# EAGLE library part IMX31_R2 (library DUMMY)
correct dimensions 62x42mm
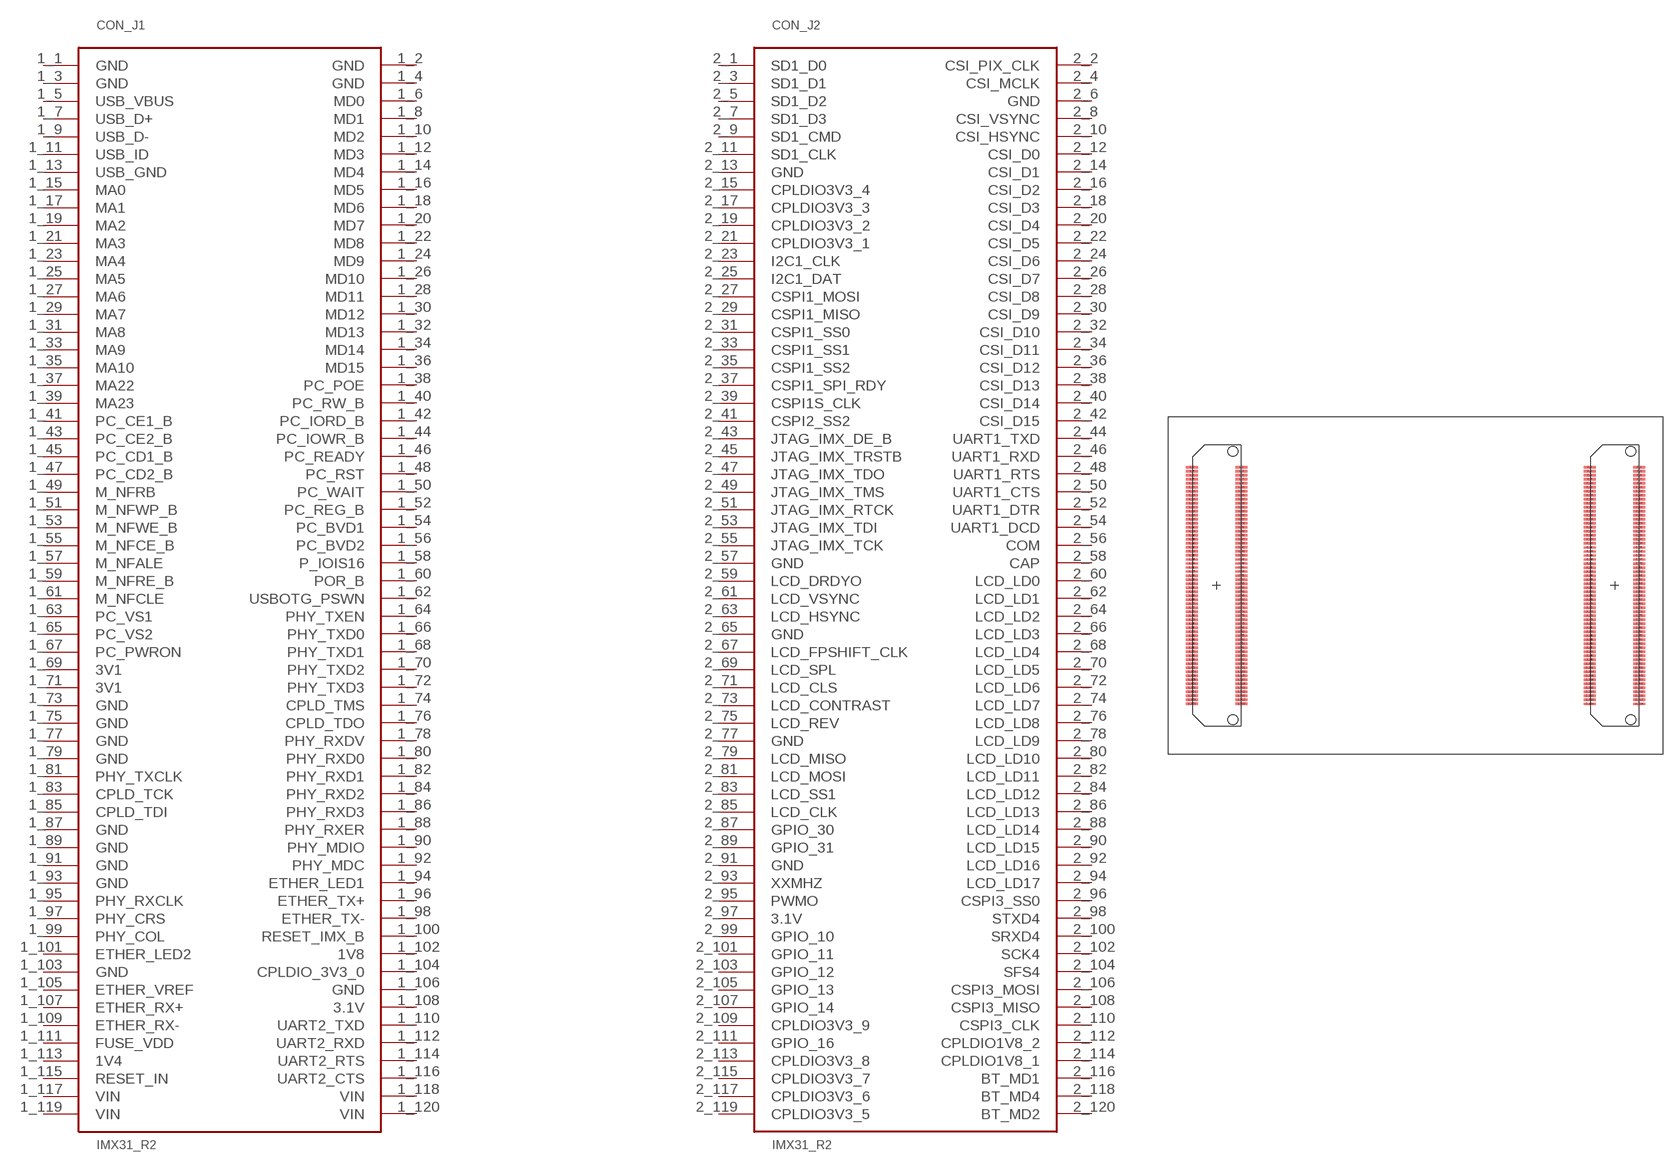
[diagram p2: symbol with the pads of IMX31_R1; footprint IMX31_R1]

Designator prefix CON; gates _J1=CPU_MODULE_J1 _J2=CPU_MODULE_J2

## IMX31_R2  [IMX31_R1]
1_1  _J1:GND
1_2  _J1:GND
1_3  _J1:GND
1_4  _J1:GND
1_5  _J1:USB_VBUS
1_6  _J1:MD0
1_7  _J1:USB_D+
1_8  _J1:MD1
1_9  _J1:USB_D-
1_10  _J1:MD2
1_11  _J1:USB_ID
1_12  _J1:MD3
1_13  _J1:USB_GND
1_14  _J1:MD4
1_15  _J1:MA0
1_16  _J1:MD5
1_17  _J1:MA1
1_18  _J1:MD6
1_19  _J1:MA2
1_20  _J1:MD7
1_21  _J1:MA3
1_22  _J1:MD8
1_23  _J1:MA4
1_24  _J1:MD9
1_25  _J1:MA5
1_26  _J1:MD10
1_27  _J1:MA6
1_28  _J1:MD11
1_29  _J1:MA7
1_30  _J1:MD12
1_31  _J1:MA8
1_32  _J1:MD13
1_33  _J1:MA9
1_34  _J1:MD14
1_35  _J1:MA10
1_36  _J1:MD15
1_37  _J1:MA22
1_38  _J1:PC_POE
1_39  _J1:MA23
1_40  _J1:PC_RW_B
1_41  _J1:PC_CE1_B
1_42  _J1:PC_IORD_B
1_43  _J1:PC_CE2_B
1_44  _J1:PC_IOWR_B
1_45  _J1:PC_CD1_B
1_46  _J1:PC_READY
1_47  _J1:PC_CD2_B
1_48  _J1:PC_RST
1_49  _J1:M_NFRB
1_50  _J1:PC_WAIT
1_51  _J1:M_NFWP_B
1_52  _J1:PC_REG_B
1_53  _J1:M_NFWE_B
1_54  _J1:PC_BVD1
1_55  _J1:M_NFCE_B
1_56  _J1:PC_BVD2
1_57  _J1:M_NFALE
1_58  _J1:P_IOIS16
1_59  _J1:M_NFRE_B
1_60  _J1:POR_B
1_61  _J1:M_NFCLE
1_62  _J1:USBOTG_PSWN
1_63  _J1:PC_VS1
1_64  _J1:PHY_TXEN
1_65  _J1:PC_VS2
1_66  _J1:PHY_TXD0
1_67  _J1:PC_PWRON
1_68  _J1:PHY_TXD1
1_69  _J1:3V1
1_70  _J1:PHY_TXD2
1_71  _J1:3V1
1_72  _J1:PHY_TXD3
1_73  _J1:GND
1_74  _J1:CPLD_TMS
1_75  _J1:GND
1_76  _J1:CPLD_TDO
1_77  _J1:GND
1_78  _J1:PHY_RXDV
1_79  _J1:GND
1_80  _J1:PHY_RXD0
1_81  _J1:PHY_TXCLK
1_82  _J1:PHY_RXD1
1_83  _J1:CPLD_TCK
1_84  _J1:PHY_RXD2
1_85  _J1:CPLD_TDI
1_86  _J1:PHY_RXD3
1_87  _J1:GND
1_88  _J1:PHY_RXER
1_89  _J1:GND
1_90  _J1:PHY_MDIO
1_91  _J1:GND
1_92  _J1:PHY_MDC
1_93  _J1:GND
1_94  _J1:ETHER_LED1
1_95  _J1:PHY_RXCLK
1_96  _J1:ETHER_TX+
1_97  _J1:PHY_CRS
1_98  _J1:ETHER_TX-
1_99  _J1:PHY_COL
1_100  _J1:RESET_IMX_B
1_101  _J1:ETHER_LED2
1_102  _J1:1V8
1_103  _J1:GND
1_104  _J1:CPLDIO_3V3_0
1_105  _J1:ETHER_VREF
1_106  _J1:GND
1_107  _J1:ETHER_RX+
1_108  _J1:3.1V
1_109  _J1:ETHER_RX-
1_110  _J1:UART2_TXD
1_111  _J1:FUSE_VDD
1_112  _J1:UART2_RXD
1_113  _J1:1V4
1_114  _J1:UART2_RTS
1_115  _J1:RESET_IN
1_116  _J1:UART2_CTS
1_117  _J1:VIN
1_118  _J1:VIN
1_119  _J1:VIN
1_120  _J1:VIN
2_1  _J2:SD1_D0
2_2  _J2:CSI_PIX_CLK
2_3  _J2:SD1_D1
2_4  _J2:CSI_MCLK
2_5  _J2:SD1_D2
2_6  _J2:GND
2_7  _J2:SD1_D3
2_8  _J2:CSI_VSYNC
2_9  _J2:SD1_CMD
2_10  _J2:CSI_HSYNC
2_11  _J2:SD1_CLK
2_12  _J2:CSI_D0
2_13  _J2:GND
2_14  _J2:CSI_D1
2_15  _J2:CPLDIO3V3_4
2_16  _J2:CSI_D2
2_17  _J2:CPLDIO3V3_3
2_18  _J2:CSI_D3
2_19  _J2:CPLDIO3V3_2
2_20  _J2:CSI_D4
2_21  _J2:CPLDIO3V3_1
2_22  _J2:CSI_D5
2_23  _J2:I2C1_CLK
2_24  _J2:CSI_D6
2_25  _J2:I2C1_DAT
2_26  _J2:CSI_D7
2_27  _J2:CSPI1_MOSI
2_28  _J2:CSI_D8
2_29  _J2:CSPI1_MISO
2_30  _J2:CSI_D9
2_31  _J2:CSPI1_SS0
2_32  _J2:CSI_D10
2_33  _J2:CSPI1_SS1
2_34  _J2:CSI_D11
2_35  _J2:CSPI1_SS2
2_36  _J2:CSI_D12
2_37  _J2:CSPI1_SPI_RDY
2_38  _J2:CSI_D13
2_39  _J2:CSPI1S_CLK
2_40  _J2:CSI_D14
2_41  _J2:CSPI2_SS2
2_42  _J2:CSI_D15
2_43  _J2:JTAG_IMX_DE_B
2_44  _J2:UART1_TXD
2_45  _J2:JTAG_IMX_TRSTB
2_46  _J2:UART1_RXD
2_47  _J2:JTAG_IMX_TDO
2_48  _J2:UART1_RTS
2_49  _J2:JTAG_IMX_TMS
2_50  _J2:UART1_CTS
2_51  _J2:JTAG_IMX_RTCK
2_52  _J2:UART1_DTR
2_53  _J2:JTAG_IMX_TDI
2_54  _J2:UART1_DCD
2_55  _J2:JTAG_IMX_TCK
2_56  _J2:COM
2_57  _J2:GND
2_58  _J2:CAP
2_59  _J2:LCD_DRDYO
2_60  _J2:LCD_LD0
2_61  _J2:LCD_VSYNC
2_62  _J2:LCD_LD1
2_63  _J2:LCD_HSYNC
2_64  _J2:LCD_LD2
2_65  _J2:GND
2_66  _J2:LCD_LD3
2_67  _J2:LCD_FPSHIFT_CLK
2_68  _J2:LCD_LD4
2_69  _J2:LCD_SPL
2_70  _J2:LCD_LD5
2_71  _J2:LCD_CLS
2_72  _J2:LCD_LD6
2_73  _J2:LCD_CONTRAST
2_74  _J2:LCD_LD7
2_75  _J2:LCD_REV
2_76  _J2:LCD_LD8
2_77  _J2:GND
2_78  _J2:LCD_LD9
2_79  _J2:LCD_MISO
2_80  _J2:LCD_LD10
2_81  _J2:LCD_MOSI
2_82  _J2:LCD_LD11
2_83  _J2:LCD_SS1
2_84  _J2:LCD_LD12
2_85  _J2:LCD_CLK
2_86  _J2:LCD_LD13
2_87  _J2:GPIO_30
2_88  _J2:LCD_LD14
2_89  _J2:GPIO_31
2_90  _J2:LCD_LD15
2_91  _J2:GND
2_92  _J2:LCD_LD16
2_93  _J2:XXMHZ
2_94  _J2:LCD_LD17
2_95  _J2:PWMO
2_96  _J2:CSPI3_SS0
2_97  _J2:3.1V
2_98  _J2:STXD4
2_99  _J2:GPIO_10
2_100  _J2:SRXD4
2_101  _J2:GPIO_11
2_102  _J2:SCK4
2_103  _J2:GPIO_12
2_104  _J2:SFS4
2_105  _J2:GPIO_13
2_106  _J2:CSPI3_MOSI
2_107  _J2:GPIO_14
2_108  _J2:CSPI3_MISO
2_109  _J2:CPLDIO3V3_9
2_110  _J2:CSPI3_CLK
2_111  _J2:GPIO_16
2_112  _J2:CPLDIO1V8_2
2_113  _J2:CPLDIO3V3_8
2_114  _J2:CPLDIO1V8_1
2_115  _J2:CPLDIO3V3_7
2_116  _J2:BT_MD1
2_117  _J2:CPLDIO3V3_6
2_118  _J2:BT_MD4
2_119  _J2:CPLDIO3V3_5
2_120  _J2:BT_MD2

## Footprint IMX31_R1 (pad centres in mm)
smd 1.448 x 0.305: 1_1 -21.714,14.755; 1_2 -27.886,14.755; 1_3 -21.714,14.255; 1_4 -27.886,14.255; 1_5 -21.714,13.755; 1_6 -27.886,13.755; 1_7 -21.714,13.255; 1_8 -27.886,13.255; 1_9 -21.714,12.755; 1_10 -27.886,12.755; 1_11 -21.714,12.255; 1_12 -27.886,12.255; 1_13 -21.714,11.755; 1_14 -27.886,11.755; 1_15 -21.714,11.255; 1_16 -27.886,11.255; 1_17 -21.714,10.755; 1_18 -27.886,10.755; 1_19 -21.714,10.255; 1_20 -27.886,10.255; 1_21 -21.714,9.755; 1_22 -27.886,9.755; 1_23 -21.714,9.255; 1_24 -27.886,9.255; 1_25 -21.714,8.755; 1_26 -27.886,8.755; 1_27 -21.714,8.255; 1_28 -27.886,8.255; 1_29 -21.714,7.755; 1_30 -27.886,7.755; 1_31 -21.714,7.255; 1_32 -27.886,7.255; 1_33 -21.714,6.755; 1_34 -27.886,6.755; 1_35 -21.714,6.255; 1_36 -27.886,6.255; 1_37 -21.714,5.755; 1_38 -27.886,5.755; 1_39 -21.714,5.255; 1_40 -27.886,5.255; 1_41 -21.714,4.755; 1_42 -27.886,4.755; 1_43 -21.714,4.255; 1_44 -27.886,4.255; 1_45 -21.714,3.755; 1_46 -27.886,3.755; 1_47 -21.714,3.255; 1_48 -27.886,3.255; 1_49 -21.714,2.755; 1_50 -27.886,2.755; 1_51 -21.714,2.255; 1_52 -27.886,2.255; 1_53 -21.714,1.755; 1_54 -27.886,1.755; 1_55 -21.714,1.255; 1_56 -27.886,1.255; 1_57 -21.714,0.755; 1_58 -27.886,0.755; 1_59 -21.714,0.255; 1_60 -27.886,0.255; 1_61 -21.714,-0.248; 1_62 -27.886,-0.248; 1_63 -21.714,-0.748; 1_64 -27.886,-0.748; 1_65 -21.714,-1.248; 1_66 -27.886,-1.248; 1_67 -21.714,-1.748; 1_68 -27.886,-1.748; 1_69 -21.714,-2.248; 1_70 -27.886,-2.248; 1_71 -21.714,-2.748; 1_72 -27.886,-2.748; 1_73 -21.714,-3.248; 1_74 -27.886,-3.248; 1_75 -21.714,-3.748; 1_76 -27.886,-3.748; 1_77 -21.714,-4.248; 1_78 -27.886,-4.248; 1_79 -21.714,-4.748; 1_80 -27.886,-4.748; 1_81 -21.714,-5.248; 1_82 -27.886,-5.248; 1_83 -21.714,-5.748; 1_84 -27.886,-5.748; 1_85 -21.714,-6.248; 1_86 -27.886,-6.248; 1_87 -21.714,-6.748; 1_88 -27.886,-6.748; 1_89 -21.714,-7.248; 1_90 -27.886,-7.248; 1_91 -21.714,-7.748; 1_92 -27.886,-7.748; 1_93 -21.714,-8.248; 1_94 -27.886,-8.248; 1_95 -21.714,-8.748; 1_96 -27.886,-8.748; 1_97 -21.714,-9.248; 1_98 -27.886,-9.248; 1_99 -21.714,-9.748; 1_100 -27.886,-9.748; 1_101 -21.714,-10.248; 1_102 -27.886,-10.248; 1_103 -21.714,-10.748; 1_104 -27.886,-10.748; 1_105 -21.714,-11.248; 1_106 -27.886,-11.248; 1_107 -21.714,-11.748; 1_108 -27.886,-11.748; 1_109 -21.714,-12.248; 1_110 -27.886,-12.248; 1_111 -21.714,-12.748; 1_112 -27.886,-12.748; 1_113 -21.714,-13.248; 1_114 -27.886,-13.248; 1_115 -21.714,-13.748; 1_116 -27.886,-13.748; 1_117 -21.714,-14.248; 1_118 -27.886,-14.248; 1_119 -21.714,-14.748; 1_120 -27.886,-14.748; 2_1 27.885,14.752; 2_2 21.713,14.752; 2_3 27.885,14.252; 2_4 21.713,14.252; 2_5 27.885,13.752; 2_6 21.713,13.752; 2_7 27.885,13.252; 2_8 21.713,13.252; 2_9 27.885,12.752; 2_10 21.713,12.752; 2_11 27.885,12.252; 2_12 21.713,12.252; 2_13 27.885,11.752; 2_14 21.713,11.752; 2_15 27.885,11.252; 2_16 21.713,11.252; 2_17 27.885,10.752; 2_18 21.713,10.752; 2_19 27.885,10.252; 2_20 21.713,10.252; 2_21 27.885,9.752; 2_22 21.713,9.752; 2_23 27.885,9.252; 2_24 21.713,9.252; 2_25 27.885,8.752; 2_26 21.713,8.752; 2_27 27.885,8.252; 2_28 21.713,8.252; 2_29 27.885,7.752; 2_30 21.713,7.752; 2_31 27.885,7.252; 2_32 21.713,7.252; 2_33 27.885,6.752; 2_34 21.713,6.752; 2_35 27.885,6.252; 2_36 21.713,6.252; 2_37 27.885,5.752; 2_38 21.713,5.752; 2_39 27.885,5.252; 2_40 21.713,5.252; 2_41 27.885,4.752; 2_42 21.713,4.752; 2_43 27.885,4.252; 2_44 21.713,4.252; 2_45 27.885,3.752; 2_46 21.713,3.752; 2_47 27.885,3.251; 2_48 21.713,3.251; 2_49 27.885,2.751; 2_50 21.713,2.751; 2_51 27.885,2.251; 2_52 21.713,2.251; 2_53 27.885,1.752; 2_54 21.713,1.752; 2_55 27.885,1.252; 2_56 21.713,1.252; 2_57 27.885,0.751; 2_58 21.713,0.751; 2_59 27.885,0.252; 2_60 21.713,0.252; 2_61 27.885,-0.252; 2_62 21.713,-0.252; 2_63 27.884,-0.754; 2_64 21.713,-0.751; 2_65 27.885,-1.252; 2_66 21.713,-1.252; 2_67 27.885,-1.752; 2_68 21.713,-1.752; 2_69 27.885,-2.252; 2_70 21.713,-2.252; 2_71 27.885,-2.752; 2_72 21.713,-2.752; 2_73 27.885,-3.252; 2_74 21.713,-3.252; 2_75 27.885,-3.752; 2_76 21.713,-3.752; 2_77 27.885,-4.252; 2_78 21.713,-4.252; 2_79 27.885,-4.752; 2_80 21.713,-4.752; 2_81 27.885,-5.252; 2_82 21.713,-5.252; 2_83 27.885,-5.752; 2_84 21.713,-5.752; 2_85 27.885,-6.252; 2_86 21.713,-6.252; 2_87 27.885,-6.752; 2_88 21.713,-6.752; 2_89 27.885,-7.252; 2_90 21.713,-7.252; 2_91 27.885,-7.752; 2_92 21.713,-7.752; 2_93 27.885,-8.252; 2_94 21.713,-8.252; 2_95 27.885,-8.752; 2_96 21.713,-8.752; 2_97 27.885,-9.252; 2_98 21.713,-9.252; 2_99 27.885,-9.752; 2_100 21.713,-9.752; 2_101 27.885,-10.252; 2_102 21.713,-10.252; 2_103 27.885,-10.752; 2_104 21.713,-10.752; 2_105 27.885,-11.252; 2_106 21.713,-11.252; 2_107 27.885,-11.752; 2_108 21.713,-11.752; 2_109 27.885,-12.252; 2_110 21.713,-12.252; 2_111 27.885,-12.752; 2_112 21.713,-12.752; 2_113 27.885,-13.252; 2_114 21.713,-13.252; 2_115 27.885,-13.752; 2_116 21.713,-13.752; 2_117 27.885,-14.252; 2_118 21.713,-14.252; 2_119 27.885,-14.752; 2_120 21.713,-14.752
hole 1.2 at -22.768,16.74
hole 1.2 at -22.768,-16.735
hole 1.2 at 26.831,16.736
hole 1.2 at 26.831,-16.739